# Altium footprint library MCP1703T-3302ECB.PcbLib: 3 footprints
Each footprint in its own frame and in the unit in brackets; x right, y up, seen from the top. Pads: shape width x height; smd on the part's side, far side on the other; paste and mask are expansions set on the pad; w line width, h text height; cw(c..) or ccw(c..) is an arc to the next point about the centre after c.
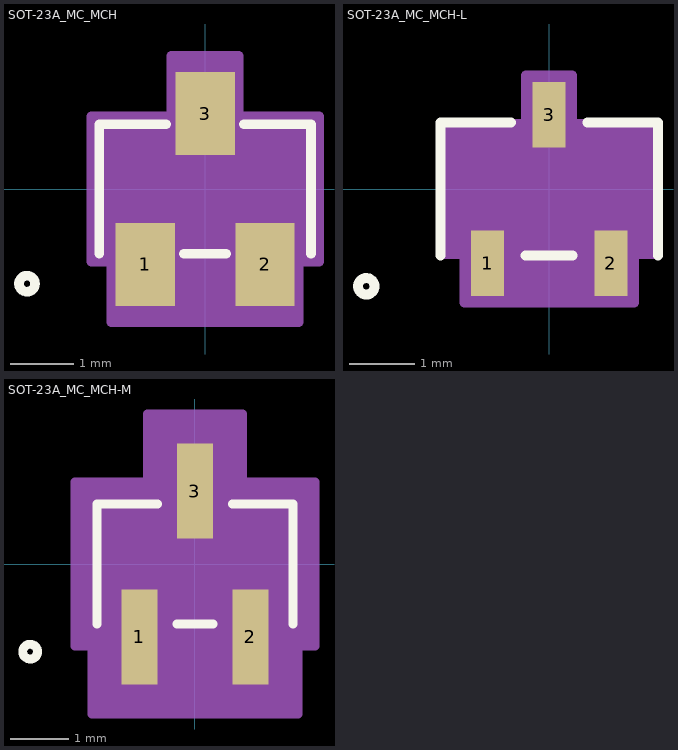
[diagram p0: the footprints below, top view; thin cyan lines are the x and y axes]

## SOT-23A_MC_MCH [mil]
pads (3):
  rect 37x52 smd paste+0 mask+0: 1(-37.4,-47.06) 2(37.4,-47.06) 3(0,47.06)
Top Overlay:
  circle w6: c-111.02,-59.06 r5
  lines w6: -66.02,-40.43 -66.02,40.43 -24.1,40.43 ; -13.3,-40.43 13.3,-40.43 ; 24.1,40.43 66.02,40.43 66.02,-40.43
  text ".Designator" at -137.5,-25 h50
Mechanical 13:
  circle w1: c-51.02,-25.43 r5
  lines w1: -61.02,-35.43 61.02,-35.43 61.02,35.43 -61.02,35.43 -61.02,-35.43 ; -47.4,-59.06 -47.4,-35.43 -27.4,-35.43 -27.4,-59.06 -47.4,-59.06 ; -10,35.43 10,35.43 10,59.06 -10,59.06 -10,35.43 ; 27.4,-59.06 27.4,-35.43 47.4,-35.43 47.4,-59.06 27.4,-59.06
  text ".Designator" at -137.5,-25 h50
Mechanical 15:
  region: -71.02,-45.43 -71.02,45.43 -21,45.43 -21,83.06 21,83.06 21,45.43 71.02,45.43 71.02,-45.43 58.4,-45.43 58.4,-83.06 -58.4,-83.06 -58.4,-45.43
  region: 61.02,-35.43 -61.02,-35.43 -61.02,35.43 61.02,35.43
  lines w6: -71.02,-45.43 -71.02,45.43 -21,45.43 -21,83.06 21,83.06 21,45.43 71.02,45.43 71.02,-45.43 58.4,-45.43 58.4,-83.06 -58.4,-83.06 -58.4,-45.43 -71.02,-45.43
3D body "SOT-23A_MC_MCH.step": height 57.09, standoff 0, extent -61.02,-59.06 61.02,59.06

## SOT-23A_MC_MCH-L [mil]
pads (3):
  rect 20x40 smd paste+0 mask+0: 1(-37.4,-45.06) 2(37.4,-45.06) 3(0,45.06)
Top Overlay:
  circle w6: c-111.02,-59.06 r5
  lines w6: -66.02,-40.43 -66.02,40.43 -23.1,40.43 ; -14.3,-40.43 14.3,-40.43 ; 23.1,40.43 66.02,40.43 66.02,-40.43
  text ".Designator" at -137.5,-25 h50
Mechanical 13:
  circle w1: c-51.02,-25.43 r5
  lines w1: -61.02,-35.43 61.02,-35.43 61.02,35.43 -61.02,35.43 -61.02,-35.43 ; -47.4,-59.06 -47.4,-35.43 -27.4,-35.43 -27.4,-59.06 -47.4,-59.06 ; -10,35.43 10,35.43 10,59.06 -10,59.06 -10,35.43 ; 27.4,-59.06 27.4,-35.43 47.4,-35.43 47.4,-59.06 27.4,-59.06
  text ".Designator" at -137.5,-25 h50
Mechanical 15:
  region: -65.02,-39.43 -65.02,39.43 -14,39.43 -14,69.06 14,69.06 14,39.43 65.02,39.43 65.02,-39.43 51.4,-39.43 51.4,-69.06 -51.4,-69.06 -51.4,-39.43
  region: 61.02,-35.43 -61.02,-35.43 -61.02,35.43 61.02,35.43
  lines w6: -65.02,-39.43 -65.02,39.43 -14,39.43 -14,69.06 14,69.06 14,39.43 65.02,39.43 65.02,-39.43 51.4,-39.43 51.4,-69.06 -51.4,-69.06 -51.4,-39.43 -65.02,-39.43
3D body "SOT-23A_MC_MCH.step": height 57.09, standoff 0, extent -61.02,-59.06 61.02,59.06

## SOT-23A_MC_MCH-M [mil]
pads (3):
  rect 24x64 smd paste+0 mask+0: 1(-37.4,-49.06) 2(37.4,-49.06) 3(0,49.06)
Top Overlay:
  circle w6: c-111.02,-59.06 r5
  lines w6: -66.02,-40.43 -66.02,40.43 -25.1,40.43 ; -12.3,-40.43 12.3,-40.43 ; 25.1,40.43 66.02,40.43 66.02,-40.43
  text ".Designator" at -137.5,-25 h50
Mechanical 13:
  circle w1: c-51.02,-25.43 r5
  lines w1: -61.02,-35.43 61.02,-35.43 61.02,35.43 -61.02,35.43 -61.02,-35.43 ; -47.4,-59.06 -47.4,-35.43 -27.4,-35.43 -27.4,-59.06 -47.4,-59.06 ; -10,35.43 10,35.43 10,59.06 -10,59.06 -10,35.43 ; 27.4,-59.06 27.4,-35.43 47.4,-35.43 47.4,-59.06 27.4,-59.06
  text ".Designator" at -137.5,-25 h50
Mechanical 15:
  region: -81.02,-55.43 -81.02,55.43 -32,55.43 -32,101.06 32,101.06 32,55.43 81.02,55.43 81.02,-55.43 69.4,-55.43 69.4,-101.06 -69.4,-101.06 -69.4,-55.43
  region: 61.02,-35.43 -61.02,-35.43 -61.02,35.43 61.02,35.43
  lines w6: -81.02,-55.43 -81.02,55.43 -32,55.43 -32,101.06 32,101.06 32,55.43 81.02,55.43 81.02,-55.43 69.4,-55.43 69.4,-101.06 -69.4,-101.06 -69.4,-55.43 -81.02,-55.43
3D body "SOT-23A_MC_MCH.step": height 57.09, standoff 0, extent -61.02,-59.06 61.02,59.06